# EAGLE library part DRV8833 (library 00_custom)
Pololu DRV8833 DC Motor Driver Board https://www.pololu.com/product/2130
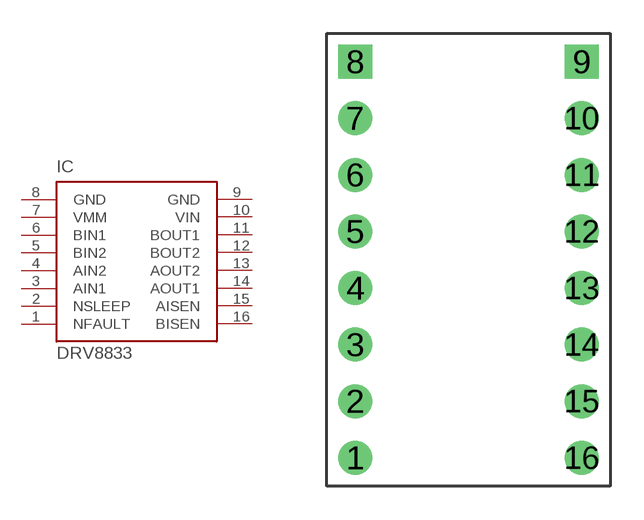
[diagram p6: symbol with the pads of DRV8833; footprint DRV8833]

Designator prefix IC

## DRV8833  [DRV8833]
1  NFAULT
2  NSLEEP
3  AIN1
4  AIN2
5  BIN2
6  BIN1
7  VMM
8  GND
9  GND
10  VIN
11  BOUT1
12  BOUT2
13  AOUT2
14  AOUT1
15  AISEN
16  BISEN

## Footprint DRV8833 (pad centres in mm)
drill 1.016: 1 1.27,1.27; 2 1.27,3.81; 3 1.27,6.35; 4 1.27,8.89; 5 1.27,11.43; 6 1.27,13.97; 7 1.27,16.51; 10 11.43,16.51; 11 11.43,13.97; 12 11.43,11.43; 13 11.43,8.89; 14 11.43,6.35; 15 11.43,3.81; 16 11.43,1.27
drill 1.016 square: 8 1.27,19.05; 9 11.43,19.05